# Altium integrated library IC-Comms-Microchip.IntLib: 6 symbols
Pins are listed as number, name and electrical type; pins without a type are passive.

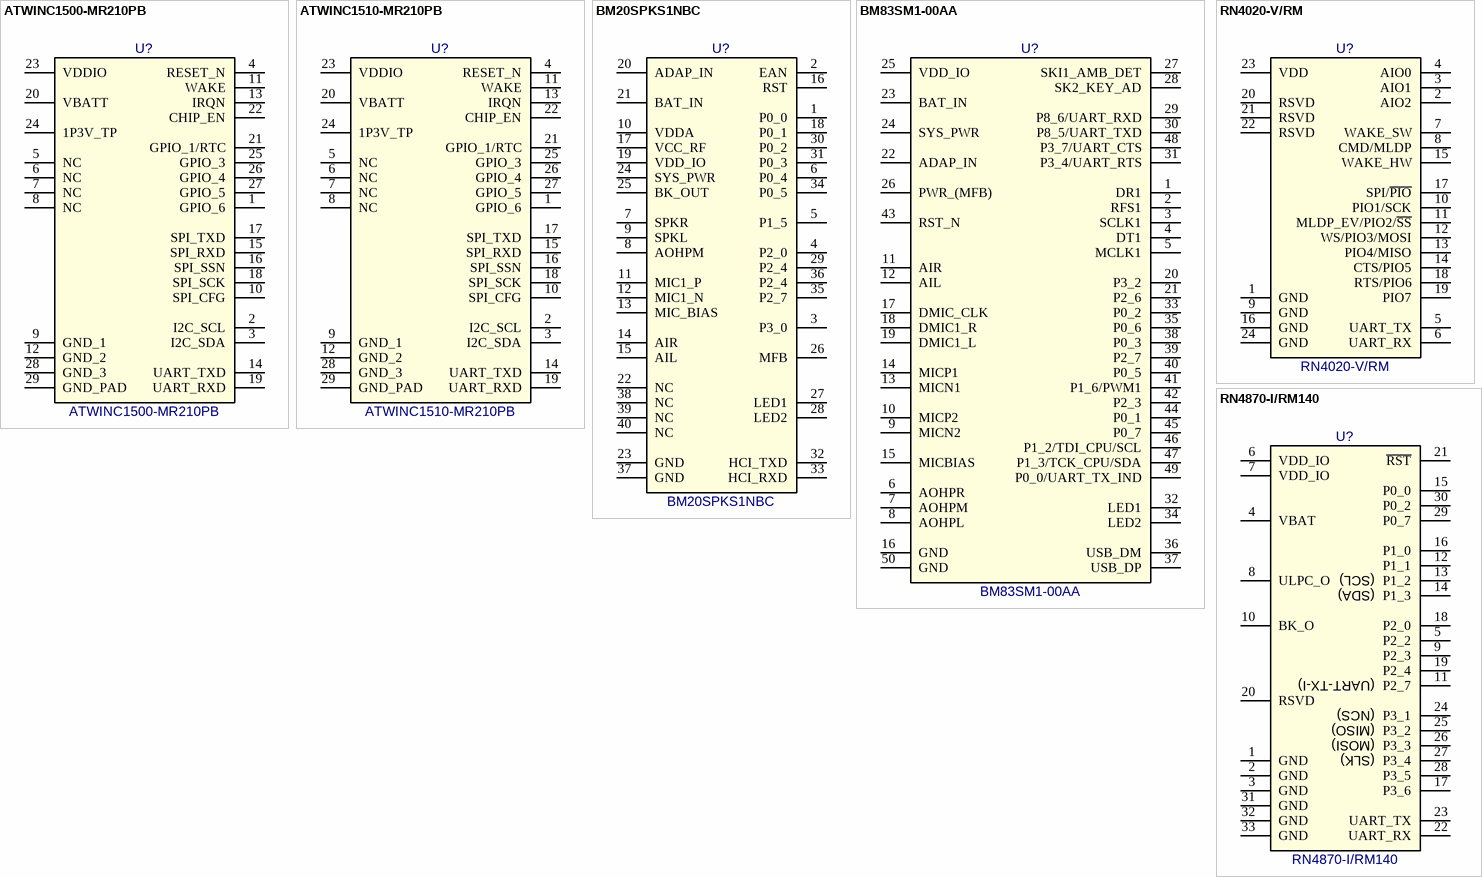
[diagram p0: symbols ATWINC1500-MR210PB to RN4870-I/RM140]

## ATWINC1500-MR210PB
designator U?
Module WiFi 802.11b/g/n Transceiver 2.4GHz (4Mb); Manufacturer: Microchip; Package: TWINC15x0-MR210PB; EDM-PN: *; Text2: *; Text1: *; Value: ATWINC1500-MR210PB; Part Number: ATWINC1500-MR210PB
footprint TWINC15x0-MR210PB (TWINC15x0-MR210PB 14.73x21.72mm)
pins: 1 GPIO_6, 2 I2C_SCL, 3 I2C_SDA, 4 RESET_N, 5 NC, 6 NC, 7 NC, 8 NC, 9 GND_1, 10 SPI_CFG, 11 WAKE, 12 GND_2, 13 IRQN, 14 UART_TXD, 15 SPI_RXD, 16 SPI_SSN, 17 SPI_TXD, 18 SPI_SCK, 19 UART_RXD, 20 VBATT, 21 GPIO_1/RTC, 22 CHIP_EN, 23 VDDIO, 24 1P3V_TP, 25 GPIO_3, 26 GPIO_4, 27 GPIO_5, 28 GND_3, 29 GND_PAD

## ATWINC1510-MR210PB
designator U?
Module WiFi 802.11b/g/n Transceiver 2.4GHz (8Mb); Manufacturer: Microchip; Package: TWINC15x0-MR210PB; EDM-PN: *; Text2: *; Text1: *; Value: ATWINC1510-MR210PB; Part Number: ATWINC1510-MR210PB
footprint TWINC15x0-MR210PB (TWINC15x0-MR210PB 14.73x21.72mm)
pins: 1 GPIO_6, 2 I2C_SCL, 3 I2C_SDA, 4 RESET_N, 5 NC, 6 NC, 7 NC, 8 NC, 9 GND_1, 10 SPI_CFG, 11 WAKE, 12 GND_2, 13 IRQN, 14 UART_TXD, 15 SPI_RXD, 16 SPI_SSN, 17 SPI_TXD, 18 SPI_SCK, 19 UART_RXD, 20 VBATT, 21 GPIO_1/RTC, 22 CHIP_EN, 23 VDDIO, 24 1P3V_TP, 25 GPIO_3, 26 GPIO_4, 27 GPIO_5, 28 GND_3, 29 GND_PAD

## BM20SPKS1NBC
designator U?
Module Bluetooth 4.1 Stereo Audio; Manufacturer: Microchip; Package: BM20; EDM-PN: *; Text2: *; Text1: *; Value: BM20SPKS1NBC; Part Number: BM20SPKS1NBC
footprint MB20 (B20 15x29mm)
pins: 1 P0_0, 2 EAN, 3 P3_0, 4 P2_0, 5 P1_5, 6 P0_4, 7 SPKR, 8 AOHPM, 9 SPKL, 10 VDDA, 11 MIC1_P, 12 MIC1_N, 13 MIC_BIAS, 14 AIR, 15 AIL, 16 RST, 17 VCC_RF, 18 P0_1, 19 VDD_IO, 20 ADAP_IN, 21 BAT_IN, 22 NC, 23 GND, 24 SYS_PWR, 25 BK_OUT, 26 MFB, 27 LED1, 28 LED2, 29 P2_4, 30 P0_2, 31 P0_3, 32 HCI_TXD, 33 HCI_RXD, 34 P0_5, 35 P2_7, 36 P2_4, 37 GND, 38 NC, 39 NC, 40 NC

## BM83SM1-00AA
designator U?
Module Bluetooth 5.0 with Antenna; Manufacturer: Microchip; EDM-PN: IC1637; Package: BM83SM1; Text2: *; Text1: *; Value: BM83SM1-00AA; Part Number: BM83SM1-00AA
footprint BM83SM1 (BM83SM1 15.0x32.0mm)
pins: 1 DR1, 2 RFS1, 3 SCLK1, 4 DT1, 5 MCLK1, 6 AOHPR, 7 AOHPM, 8 AOHPL, 9 MICN2, 10 MICP2, 11 AIR, 12 AIL, 13 MICN1, 14 MICP1, 15 MICBIAS, 16 GND, 17 DMIC_CLK, 18 DMIC1_R, 19 DMIC1_L, 20 P3_2, 21 P2_6, 22 ADAP_IN, 23 BAT_IN, 24 SYS_PWR, 25 VDD_IO, 26 PWR_(MFB), 27 SKI1_AMB_DET, 28 SK2_KEY_AD, 29 P8_6/UART_RXD, 30 P8_5/UART_TXD, 31 P3_4/UART_RTS, 32 LED1, 33 P0_2, 34 LED2, 35 P0_6, 36 USB_DM, 37 USB_DP, 38 P0_3, 39 P2_7, 40 P0_5, 41 P1_6/PWM1, 42 P2_3, 43 RST_N, 44 P0_1, 45 P0_7, 46 P1_2/TDI_CPU/SCL, 47 P1_3/TCK_CPU/SDA, 48 P3_7/UART_CTS, 49 P0_0/UART_TX_IND, 50 GND

## RN4020-V/RM
designator U?
Module Bluetooth 4.1 with Antenna; Manufacturer: Microchip; Package: RN4020; EDM-PN: *; Text2: *; Text1: *; Value: RN4020-V/RM; Part Number: RN4020-V/RM
footprint RN4020 (RN4020 11.5x18.5mm)
pins: 1 GND, 2 AIO2, 3 AIO1, 4 AIO0, 5 UART_TX, 6 UART_RX, 7 WAKE_SW, 8 CMD/MLDP, 9 GND, 10 PIO1/SCK, 11 MLDP_EV/PIO2/~{SS}, 12 WS/PIO3/MOSI, 13 PIO4/MISO, 14 CTS/PIO5, 15 WAKE_HW, 16 GND, 17 SPI/~{PIO}, 18 RTS/PIO6, 19 PIO7, 20 RSVD, 21 RSVD, 22 RSVD, 23 VDD, 24 GND

## RN4870-I/RM140
designator U?
Module Bluetooth V5.0 2.402GHz-2.48GHz Integrated; Manufacturer: Microchip; Package: RN4870; EDM-PN: *; Text2: *; Text1: *; Value: RN4870-I/RM140; Part Number: RN4870-I/RM140
footprint RN4870 (RN4870 12.0x22.0mm)
pins: 1 GND (power), 2 GND (power), 3 GND (power), 4 VBAT (power), 5 P2_2, 6 VDD_IO (power), 7 VDD_IO (power), 8 ULPC_O (power), 9 P2_3, 10 BK_O (power), 11 P2_7, 12 P1_1, 13 P1_2, 14 P1_3, 15 P0_0, 16 P1_0, 17 P3_6, 18 P2_0, 19 P2_4, 20 RSVD, 21 ~{RST}, 22 UART_RX, 23 UART_TX, 24 P3_1, 25 P3_2, 26 P3_3, 27 P3_4, 28 P3_5, 29 P0_7, 30 P0_2, 31 GND (power), 32 GND (power), 33 GND (power)
text: (SCL); (SDA); (UART-TX-I); (NCS); (MISO); (MOSI); (SLK)